# EAGLE library part LM8262 (library _RoweTel)
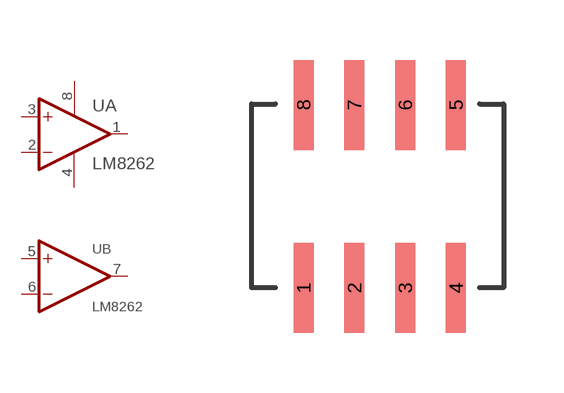
[diagram p31: symbol with the pads of TLE2142SOIC; footprint TLE2142SOIC]

Designator prefix U; gates A=LM358 B=TLE2142B

## LM8262  [TLE2142SOIC]
1  A:1  out
2  A:2  in
3  A:3  in
4  A:4  sup
5  B:5  in
6  B:6  in
7  B:7  out
8  A:8  sup

## Footprint TLE2142SOIC (pad centres in mm)
smd 0.5 x 2.25: 1 -1.905,-2.299; 2 -0.635,-2.299; 3 0.635,-2.299; 4 1.905,-2.299; 5 1.905,2.281; 6 0.635,2.281; 7 -0.635,2.281; 8 -1.905,2.281